# Altium schematic symbol library Icons.SchLib: 1 symbol
Pins are listed as number, name and electrical type; pins without a type are passive.

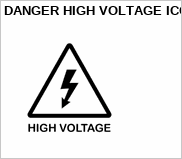
[diagram p0: symbol DANGER HIGH VOLTAGE ICON]

## DANGER HIGH VOLTAGE ICON
designator GRPH  (value not drawn)  (no BOM)
GRAPHIC ICON
footprint DANGER_HIGH_VOLTAGE